# Altium footprint library WS-MITV.PcbLib: 9 footprints
Each footprint in its own frame and in the unit in brackets; x right, y up, seen from the top. Pads: shape width x height; smd on the part's side, far side on the other; paste and mask are expansions set on the pad; w line width, h text height; cw(c..) or ccw(c..) is an arc to the next point about the centre after c.
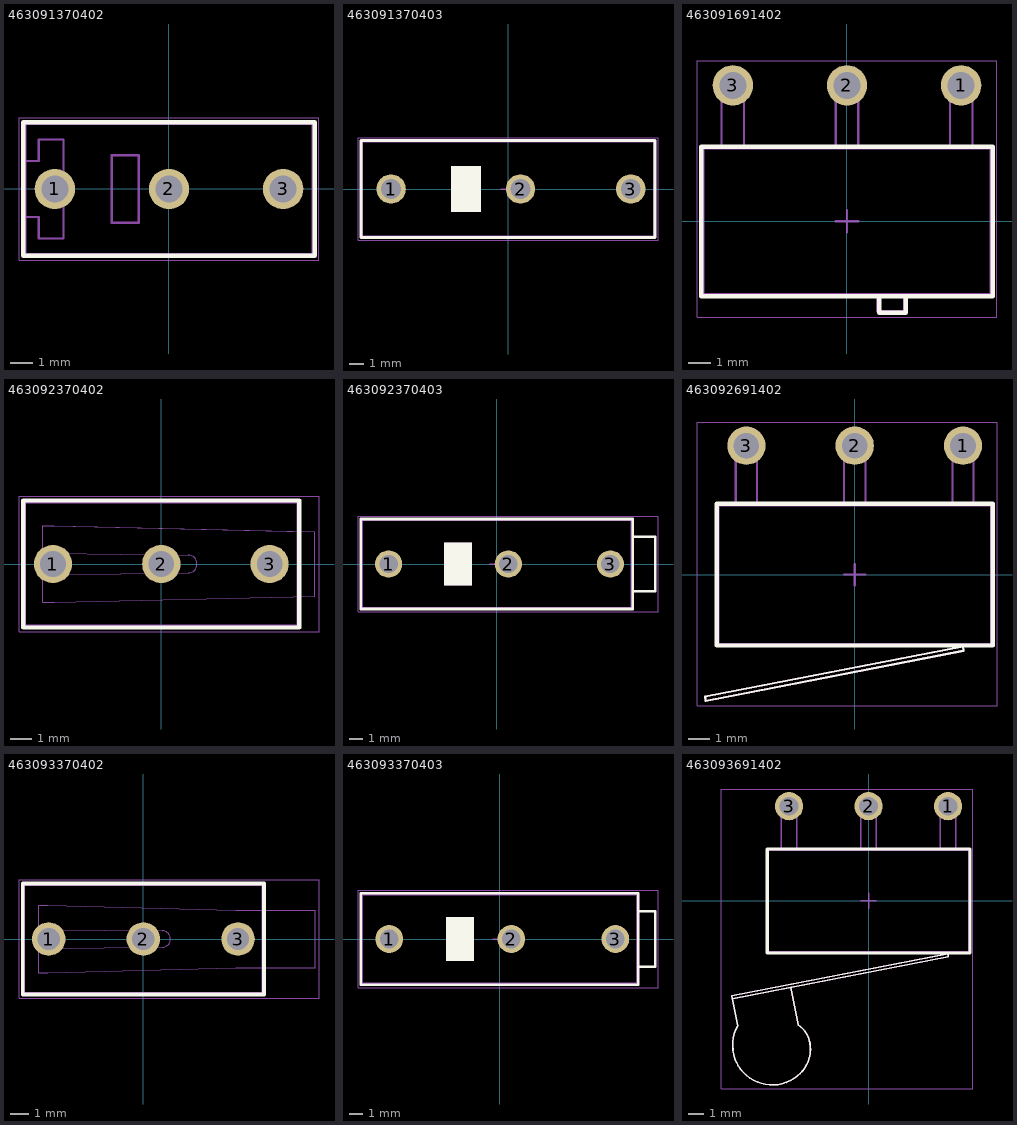
[diagram p0: the footprints below, top view; thin cyan lines are the x and y axes]

## 463091370402 [mm] "THT Terminal with  Actuator, 150 gf Micro Switch 12.8  x 5.8 mm Vertical Operation"
height 6.5
pads (3):
  round 1.8 hole 1.2: 1(-5.08,0) 2(0,0) 3(5.08,0)
Top Overlay:
  lines w0.2: -6.475,-2.975 -6.475,2.975 6.475,2.975 6.475,-2.975 -6.475,-2.975
Top Assembly:
  lines w0.1: -6.4,-1.25 -5.8,-1.25 -5.8,-2.2 -4.7,-2.2 -4.7,2.2 -5.8,2.2 -5.8,1.25 -6.4,1.25 ; -6.4,-2.9 -6.4,2.9 6.4,2.9 6.4,-2.9 -6.4,-2.9 ; -2.55,-1.5 -2.55,1.5 -1.35,1.5 -1.35,-1.5 -2.55,-1.5
Top Designator:
  text ".Designator" at -3.647,-0.357 h1
Top 3D Body:
  lines w0.1: -6.4,-1.25 -5.8,-1.25 -5.8,-2.2 -4.7,-2.2 -4.7,2.2 -5.8,2.2 -5.8,1.25 -6.4,1.25 ; -6.4,-2.9 6.4,-2.9 6.4,2.9 -6.4,2.9 -6.4,-2.9 ; -2.55,-1.5 -1.35,-1.5 -1.35,1.5 -2.55,1.5 -2.55,-1.5
Top Courtyard:
  lines w0.05: -6.675,-3.175 6.675,-3.175 6.675,3.175 -6.675,3.175 -6.675,-3.175
Top Component Center:
  lines w0.1: -0.5,0 0.5,0 ; 0,-0.5 0,0.5
3D body "463091370402.stp": height 7.3, standoff -3.55, extent -6.4,-2.9 6.4,2.9

## 463091370403 [mm]
height 13.519
pads (3):
  round 2 hole 1.35: 1(-7.95,0) 2(0.85,0) 3(8.35,0)
Top Overlay:
  region: -3.85,1.55 -1.85,1.55 -1.85,-1.55 -3.85,-1.55
  lines w0.2: -10,-3.3 -10,3.3 10,3.3 10,-3.3 -10,-3.3
Top Component Outline:
  region: -3.85,1.55 -1.85,1.55 -1.85,-1.55 -3.85,-1.55
  lines w0.1: -9.9,-3.2 -9.9,3.2 9.9,3.2 9.9,-3.2 -9.9,-3.2
V Cut:
  region: -3.85,1.55 -1.85,1.55 -1.85,-1.55 -3.85,-1.55
  region: -3.85,1.55 -1.85,1.55 -1.85,-1.55 -3.85,-1.55
Top Assembly:
  region: -3.85,1.55 -1.85,1.55 -1.85,-1.55 -3.85,-1.55
  lines w0.1: -10,-3.3 -10,3.3 10,3.3 10,-3.3 -10,-3.3
Top Designator:
  text ".Designator" at -3.647,-0.357 h1
Top 3D Body:
  region: -3.85,1.55 -1.85,1.55 -1.85,-1.55 -3.85,-1.55
  lines w0.1: -9.9,-3.2 -9.9,3.2 9.9,3.2 9.9,-3.2 -9.9,-3.2
Top Courtyard:
  lines w0.05: -10.2,-3.5 10.2,-3.5 10.2,3.5 -10.2,3.5 -10.2,-3.5
Top Component Center:
  lines w0.1: -0.5,0 0.5,0 ; 0,-0.5 0,0.5
3D body "463091370403.stp": height 12.9, standoff -3.4, extent -9.9,-3.2 9.9,3.2

## 463091691402 [mm] "THT Terminal with  Actuator, 150 g Micro Switch"
height 5.8
pads (3):
  round 1.8 hole 1.2: 1(5.08,6.05) 2(0,6.05) 3(-5.08,6.05)
Top Overlay:
  lines w0.2: 1.425,-3.325 1.425,-4.075 2.625,-4.075 2.625,-3.325 ; -6.475,-3.325 -6.475,3.325 6.475,3.325 6.475,-3.325 -6.475,-3.325
Top Assembly:
  lines w0.1: -5.58,3.25 -5.58,6.25 -4.58,6.25 -4.58,3.25 ; -0.5,3.25 -0.5,6.25 0.5,6.25 0.5,3.25 ; 1.35,-3.25 1.35,-4 2.55,-4 2.55,-3.25 ; 4.58,3.25 4.58,6.25 5.58,6.25 5.58,3.25 ; -6.4,-3.25 6.4,-3.25 6.4,3.25 -6.4,3.25 -6.4,-3.25
Top Designator:
  text ".Designator" at -3.647,-0.357 h1
Top 3D Body:
  lines w0.1: -5.58,3.25 -5.58,6.25 -4.58,6.25 -4.58,3.25 ; -0.5,3.25 -0.5,6.25 0.5,6.25 0.5,3.25 ; 1.35,-3.25 1.35,-4 2.55,-4 2.55,-3.25 ; 4.58,3.25 4.58,6.25 5.58,6.25 5.58,3.25 ; -6.4,-3.25 -6.4,3.25 6.4,3.25 6.4,-3.25 -6.4,-3.25
Top Courtyard:
  lines w0.05: -6.675,-4.275 6.675,-4.275 6.675,7.15 -6.675,7.15 -6.675,-4.275
Top Component Center:
  lines w0.1: -0.5,0 0.5,0 ; 0,-0.5 0,0.5
3D body "463091691402.stp": height 5.9, standoff -3, extent -6.4,-4 6.4,6.25

## 463092370402 [mm] "THT Terminal with Lever,  80 gf Micro Switch 12.8 x 5.8 mm Vertical Operation"
height 6.5
pads (3):
  round 1.8 hole 1.2: 1(-5.08,0) 2(0,0) 3(5.08,0)
Top Overlay:
  lines w0.2: -6.475,-2.975 6.475,-2.975 6.475,2.975 -6.475,2.975 -6.475,-2.975
Top Assembly:
  lines w0.05: -5.55,-0.5 -5.55,-1.8 -5.03,-1.8 7.206,-1.505 7.206,1.505 -5.03,1.8 -5.55,1.8 -5.55,0.5 ; -5.55,-0.495 -5.55,-1.795 -5.15,-1.795 ; -5.55,0.495 -5.55,1.795 -5.15,1.795 6.896,1.505
  lines w0.1: -6.4,-2.9 6.4,-2.9 6.4,2.9 -6.4,2.9 -6.4,-2.9
Top Designator:
  text ".Designator" at -3.647,-0.357 h1
Top 3D Body:
  lines w0.05: -5.55,-0.5 -5.55,-1.8 -5.03,-1.8 7.206,-1.505 7.206,1.505 -5.03,1.8 -5.55,1.8 -5.55,0.5 ; -5.15,-1.795 -5.55,-1.795 -5.55,-0.495 -5.06,-0.495 1.259,-0.418 ccw(c1.259,0) 1.259,0.418 -5.06,0.495 -5.55,0.495 -5.55,1.795 -5.15,1.795 6.896,1.505
  lines w0.1: -6.4,-2.9 -6.4,2.9 6.4,2.9 6.4,-2.9 -6.4,-2.9
Top Courtyard:
  lines w0.05: -6.675,-3.175 -6.675,3.175 7.4,3.175 7.4,-3.175 -6.675,-3.175
Top Component Center:
  lines w0.1: -0.5,0 0.5,0 ; 0,-0.5 0,0.5
3D body "463092370402.stp": height 9.25, standoff -3.55, extent -6.4,-2.9 6.95,2.9

## 463092370403 [mm]
height 10.6
pads (3):
  round 2 hole 1.35: 1(-7.95,0) 2(0.85,0) 3(8.35,0)
Top Overlay:
  region: -3.85,1.55 -1.85,1.55 -1.85,-1.55 -3.85,-1.55
  lines w0.2: 10,-2 11.65,-2 11.65,2 10,2 ; -10,-3.3 -10,3.3 10,3.3 10,-3.3 -10,-3.3
Top Component Outline:
  region: -3.85,1.55 -1.85,1.55 -1.85,-1.55 -3.85,-1.55
  lines w0.1: -9.9,-3.2 -9.9,3.2 9.9,3.2 9.9,-3.2 -9.9,-3.2
V Cut:
  region: -3.85,1.55 -1.85,1.55 -1.85,-1.55 -3.85,-1.55
  region: -3.85,1.55 -1.85,1.55 -1.85,-1.55 -3.85,-1.55
Top Assembly:
  region: -3.85,1.55 -1.85,1.55 -1.85,-1.55 -3.85,-1.55
  lines w0.1: 10,-2 11.65,-2 11.65,2 10,2 ; -10,-3.3 -10,3.3 10,3.3 10,-3.3 -10,-3.3
Top Designator:
  text ".Designator" at -3.647,-0.357 h1
Top 3D Body:
  region: -3.85,1.55 -1.85,1.55 -1.85,-1.55 -3.85,-1.55
  lines w0.1: 9.9,-2 11.65,-2 11.65,2 9.9,2 ; -9.9,-3.2 -9.9,3.2 9.9,3.2 9.9,-3.2 -9.9,-3.2
Top Courtyard:
  lines w0.05: -10.2,-3.5 11.85,-3.5 11.85,3.5 -10.2,3.5 -10.2,-3.5
Top Component Center:
  lines w0.1: -0.5,0 0.5,0 ; 0,-0.5 0,0.5
3D body "463092370403.stp": height 16.19, standoff -3.4, extent -9.9,-3.2 11.65,3.2

## 463092691402 [mm] "THT Terminal with Lever,  80 g Micro Switch"
height 5.8
pads (3):
  round 1.8 hole 1.2: 1(5.08,6.05) 2(0,6.05) 3(-5.08,6.05)
Top Overlay:
  lines w0.1: 5.079,-3.372 5.096,-3.571 ; 5.079,-3.372 -7.014,-5.722 -6.996,-5.922 5.096,-3.571 ; 5.079,-3.372 5.096,-3.571
  lines w0.2: -6.475,-3.325 -6.475,3.325 6.475,3.325 6.475,-3.325 -6.475,-3.325
Top Assembly:
  lines w0.1: -5.58,3.25 -5.58,6.25 -4.58,6.25 -4.58,3.25 ; -0.5,3.25 -0.5,6.25 0.5,6.25 0.5,3.25 ; 4.58,3.25 4.58,6.25 5.58,6.25 5.58,3.25 ; 5.079,-3.372 5.096,-3.571 ; 5.079,-3.372 -7.014,-5.722 -6.996,-5.922 5.096,-3.571 ; 5.079,-3.372 5.096,-3.571 ; -6.4,-3.25 6.4,-3.25 6.4,3.25 -6.4,3.25 -6.4,-3.25
Top Designator:
  text ".Designator" at -3.647,-0.357 h1
Top 3D Body:
  lines w0.1: -5.58,3.25 -5.58,6.25 -4.58,6.25 -4.58,3.25 ; -0.5,3.25 -0.5,6.25 0.5,6.25 0.5,3.25 ; 4.58,3.25 4.58,6.25 5.58,6.25 5.58,3.25 ; 5.079,-3.372 5.096,-3.571 ; 5.079,-3.372 -7.014,-5.722 -6.996,-5.922 5.096,-3.571 ; 5.079,-3.372 5.096,-3.571 ; -6.4,-3.25 -6.4,3.25 6.4,3.25 6.4,-3.25 -6.4,-3.25
Top Courtyard:
  lines w0.05: -7.4,-6.151 6.675,-6.151 6.675,7.15 -7.4,7.15 -7.4,-6.151
Top Component Center:
  lines w0.1: -0.5,0 0.5,0 ; 0,-0.5 0,0.5
3D body "463092691402.stp": height 5.9, standoff -3, extent -6.95,-5.951 6.4,6.25

## 463093370402 [mm] "THT Terminal with Roller  Lever, 80 gf Micro Switch 12.8 x 5.8  mm Vertical Operation"
height 6.5
pads (3):
  round 1.8 hole 1.2: 1(-5.08,0) 2(0,0) 3(5.08,0)
Top Overlay:
  lines w0.2: -6.475,-2.975 -6.475,2.975 6.475,2.975 6.475,-2.975 -6.475,-2.975
Top Assembly:
  lines w0.05: -5.61,-0.5 -5.61,-1.8 -5.14,-1.8 4.947,-1.546 9.226,-1.546 9.226,1.546 4.947,1.546 -5.14,1.8 -5.61,1.8 -5.61,0.5
  lines w0.1: -6.4,-2.9 -6.4,2.9 6.4,2.9 6.4,-2.9 -6.4,-2.9
Top Designator:
  text ".Designator" at -3.647,-0.357 h1
Top 3D Body:
  lines w0.05: -5.61,-1.8 -5.61,-0.5 -5.21,-0.5 1.01,-0.441 ccw(c1.01,0) 1.01,0.441 -5.21,0.5 -5.61,0.5 -5.61,1.8 -5.14,1.8 4.947,1.546 9.226,1.546 9.226,-1.546 4.947,-1.546 -5.14,-1.8 -5.61,-1.8
  lines w0.1: -6.4,-2.9 6.4,-2.9 6.4,2.9 -6.4,2.9 -6.4,-2.9
Top Courtyard:
  lines w0.05: -6.675,-3.175 9.426,-3.175 9.426,3.175 -6.675,3.175 -6.675,-3.175
Top Component Center:
  lines w0.1: -0.5,0 0.5,0 ; 0,-0.5 0,0.5
3D body "463093370402.stp": height 15.12, standoff -3.55, extent -6.4,-2.9 8.85,2.9

## 463093370403 [mm]
height 10.6
pads (3):
  round 2 hole 1.35: 1(-7.95,0) 2(0.85,0) 3(8.35,0)
Top Overlay:
  region: -3.85,1.55 -1.85,1.55 -1.85,-1.55 -3.85,-1.55
  lines w0.2: 10,-2 11.224,-2 11.224,2 10,2 ; -10,-3.3 -10,3.3 10,3.3 10,-3.3 -10,-3.3
Top Component Outline:
  region: -3.85,1.55 -1.85,1.55 -1.85,-1.55 -3.85,-1.55
  lines w0.1: -9.9,-3.2 -9.9,3.2 9.9,3.2 9.9,-3.2 -9.9,-3.2
V Cut:
  region: -3.85,1.55 -1.85,1.55 -1.85,-1.55 -3.85,-1.55
  region: -3.85,1.55 -1.85,1.55 -1.85,-1.55 -3.85,-1.55
Top Assembly:
  region: -3.85,1.55 -1.85,1.55 -1.85,-1.55 -3.85,-1.55
  lines w0.1: 10,-2 11.224,-2 11.224,2 10,2 ; -10,-3.3 -10,3.3 10,3.3 10,-3.3 -10,-3.3
Top Designator:
  text ".Designator" at -3.647,-0.357 h1
Top 3D Body:
  region: -3.85,1.55 -1.85,1.55 -1.85,-1.55 -3.85,-1.55
  lines w0.1: 9.9,-2 11.224,-2 11.224,2 9.9,2 ; -9.9,-3.2 -9.9,3.2 9.9,3.2 9.9,-3.2 -9.9,-3.2
Top Courtyard:
  lines w0.05: -10.2,-3.5 -10.2,3.5 11.424,3.5 11.424,-3.5 -10.2,-3.5
Top Component Center:
  lines w0.1: -0.5,0 0.5,0 ; 0,-0.5 0,0.5
3D body "463093370403.stp": height 21.22, standoff -3.4, extent -9.9,-3.2 11.224,3.2

## 463093691402 [mm] "THT Terminal with  Actuator, 150 g Micro Switch"
height 5.8
pads (3):
  round 1.8 hole 1.2: 1(5.08,6.05) 2(0,6.05) 3(-5.08,6.05)
Top Overlay:
  lines w0.1: -8.694,-6.252 5.096,-3.571 ; -4.966,-5.527 -4.503,-7.905 cw(c-5.572,-9.426) -3.717,-9.315 cw(c-5.83,-9.492) -4.372,-11.032 cw(c-6.149,-9.228) -8.357,-7.987 -8.732,-6.056 5.079,-3.372 ; 5.079,-3.372 5.096,-3.571 ; 5.079,-3.372 5.096,-3.571
  lines w0.2: -6.475,-3.325 -6.475,3.325 6.475,3.325 6.475,-3.325 -6.475,-3.325
Top Assembly:
  lines w0.1: -8.694,-6.252 5.096,-3.571 ; -5.58,3.25 -5.58,6.25 -4.58,6.25 -4.58,3.25 ; -4.966,-5.527 -4.503,-7.905 cw(c-5.572,-9.426) -3.717,-9.315 cw(c-5.83,-9.492) -4.372,-11.032 cw(c-6.149,-9.228) -8.357,-7.987 -8.732,-6.056 5.079,-3.372 ; -0.5,3.25 -0.5,6.25 0.5,6.25 0.5,3.25 ; 4.58,3.25 4.58,6.25 5.58,6.25 5.58,3.25 ; 5.079,-3.372 5.096,-3.571 ; 5.079,-3.372 5.096,-3.571 ; -6.4,-3.25 6.4,-3.25 6.4,3.25 -6.4,3.25 -6.4,-3.25
Top Designator:
  text ".Designator" at -3.647,-0.357 h1
Top 3D Body:
  lines w0.1: -8.694,-6.252 5.096,-3.571 ; -5.58,3.25 -5.58,6.25 -4.58,6.25 -4.58,3.25 ; -4.966,-5.527 -4.503,-7.905 cw(c-5.572,-9.426) -3.717,-9.315 cw(c-5.83,-9.492) -4.372,-11.032 cw(c-6.149,-9.228) -8.357,-7.987 -8.732,-6.056 5.079,-3.372 ; -0.5,3.25 -0.5,6.25 0.5,6.25 0.5,3.25 ; 4.58,3.25 4.58,6.25 5.58,6.25 5.58,3.25 ; 5.079,-3.372 5.096,-3.571 ; 5.079,-3.372 5.096,-3.571 ; -6.4,-3.25 -6.4,3.25 6.4,3.25 6.4,-3.25 -6.4,-3.25
Top Courtyard:
  lines w0.05: -9.427,-12.02 6.675,-12.02 6.675,7.15 -9.427,7.15 -9.427,-12.02
Top Component Center:
  lines w0.1: -0.5,0 0.5,0 ; 0,-0.5 0,0.5
3D body "463093691402.stp": height 5.9, standoff -3, extent -8.85,-11.82 6.4,6.25